# EAGLE library part AS-ITM-00103 (library tinycircuits)
CONN TERM BLK 10POS 2.54MM R/A
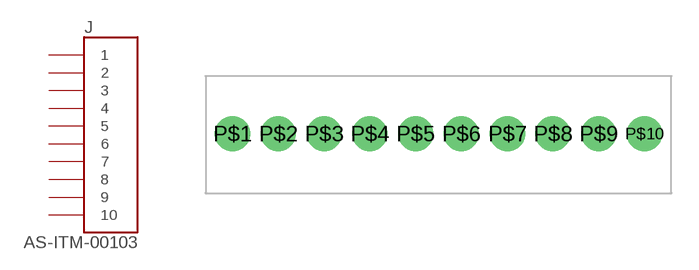
[diagram p44: symbol with the pads of 10POS_2.54MM_TERMBLOCK; footprint 10POS_2.54MM_TERMBLOCK]

Designator prefix J

## AS-ITM-00103 (PARTNO: AS-ITM-00103; VALUE: ESDM10100)  [10POS_2.54MM_TERMBLOCK]
P$1  1
P$2  2
P$3  3
P$4  4
P$5  5
P$6  6
P$7  7
P$8  8
P$9  9
P$10  10

## Footprint 10POS_2.54MM_TERMBLOCK (pad centres in mm)
drill 1.3: P$1 -11.3,0; P$2 -8.76,0; P$3 -6.22,0; P$4 -3.68,0; P$5 -1.14,0; P$6 1.4,0; P$7 3.96,0; P$8 6.48,0; P$9 9.02,0; P$10 11.56,0